# Altium schematic symbol library AD9288.SchLib: 1 symbol
Pins are listed as number, name and electrical type; pins without a type are passive.

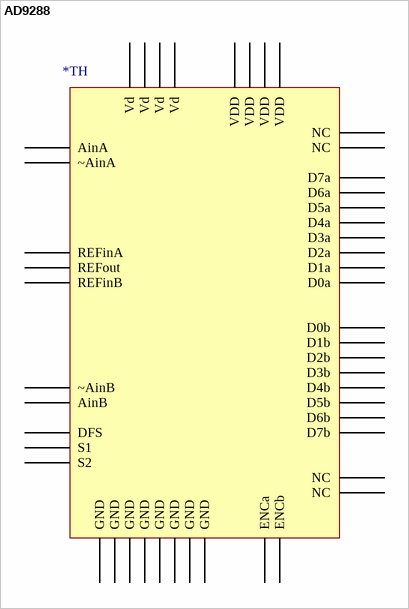
[diagram p0: symbol AD9288]

## AD9288
designator *TH  (value not drawn)
AD9288-8BIT ADC
footprint AD9288 (TSQFP, 48-Leads, Body 7.00x7.00mm, Pitch 0.50mm, IPC Medium Density)
pins: 1 GND, 2 AinA, 3 ~AinA, 4 DFS, 5 REFinA, 6 REFout, 7 REFinB, 8 S1, 9 S2, 10 ~AinB, 11 AinB, 12 GND, 13 Vd, 14 ENCb, 15 VDD, 16 GND, 17 D7b, 18 D6b, 19 D5b, 20 D4b, 21 D3b, 22 D2b, 23 D1b, 24 D0b, 25 NC, 26 NC, 27 GND, 28 VDD, 29 GND, 30 Vd, 31 Vd, 32 GND, 33 VDD, 34 GND, 35 NC, 36 NC, 37 D0a, 38 D1a, 39 D2a, 40 D3a, 41 D4a, 42 D5a, 43 D6a, 44 D7a, 45 GND, 46 VDD, 47 ENCa, 48 Vd